# EAGLE library part 2171790001 (library esbd-connectors)
21721790001 Molex Universal Serial Bus (USB) Shielded I/O Receptacle, Type C, Right-Angle, Surface Mount, Top Mount, Single Row, 16 Circuits, Gold (Au) Plating
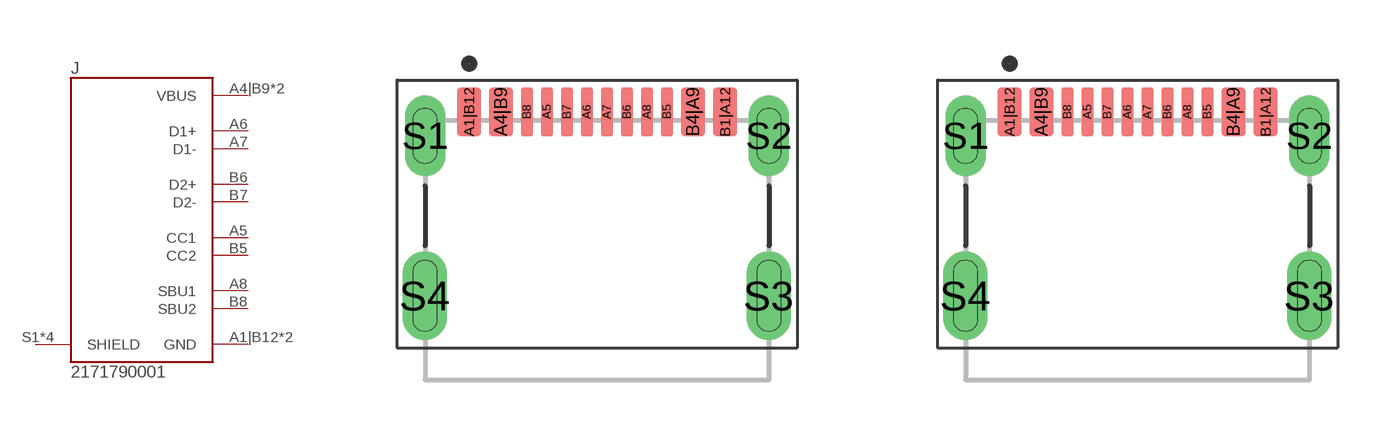
[diagram p1: symbol with the pads of 2171790001-2L; footprints 2171790001-2L, 2171790001-4L]

Designator prefix J

## 2171790001-2L  [2171790001-2L]
A1|B12  GND  pwr
A4|B9  VBUS  pwr
A5  CC1
A6  D1+
A7  D1-
A8  SBU1
B1|A12  GND  pwr
B4|A9  VBUS  pwr
B5  CC2
B6  D2+
B7  D2-
B8  SBU2
S1  SHIELD  pwr
S2  SHIELD  pwr
S3  SHIELD  pwr
S4  SHIELD  pwr

## 2171790001-4L  [2171790001-4L]
Pads as for 2171790001-2L

## 2171790001-6L  [2171790001-6L]
Pads as for 2171790001-2L

## Footprint 2171790001-2L (pad centres in mm)
https://www.molex.com/pdm_docs/sd/2171790001_sd.pdf
smd 0.6 x 1.2: A1|B12 -3.2,3.45; A4|B9 -2.4,3.45; B1|A12 3.2,3.45; B4|A9 2.4,3.45
smd 0.3 x 1.2: A5 -1.25,3.45; A6 -0.25,3.45; A7 0.25,3.45; A8 1.25,3.45; B5 1.75,3.45; B6 0.75,3.45; B7 -0.75,3.45; B8 -1.75,3.45
drill 0.5 long: S1 -4.3,2.85; S2 4.29,2.85
drill 0.6 long: S3 4.29,-1.15; S4 -4.31,-1.15

## Footprint 2171790001-4L (pad centres in mm)
https://www.molex.com/pdm_docs/sd/2171790001_sd.pdf
smd 0.6 x 1.2: A1|B12 -3.2,3.45; A4|B9 -2.4,3.45; B1|A12 3.2,3.45; B4|A9 2.4,3.45
smd 0.3 x 1.2: A5 -1.25,3.45; A6 -0.25,3.45; A7 0.25,3.45; A8 1.25,3.45; B5 1.75,3.45; B6 0.75,3.45; B7 -0.75,3.45; B8 -1.75,3.45
drill 0.5 long: S1 -4.3,2.85; S2 4.29,2.85
drill 0.6 long: S3 4.29,-1.15; S4 -4.31,-1.15

## Footprint 2171790001-6L (pad centres in mm)
https://www.molex.com/pdm_docs/sd/2171790001_sd.pdf
smd 0.6 x 1.2: A1|B12 -3.2,3.45; A4|B9 -2.4,3.45; B1|A12 3.2,3.45; B4|A9 2.4,3.45
smd 0.3 x 1.2: A5 -1.25,3.45; A6 -0.25,3.45; A7 0.25,3.45; A8 1.25,3.45; B5 1.75,3.45; B6 0.75,3.45; B7 -0.75,3.45; B8 -1.75,3.45
drill 0.5 long: S1 -4.3,2.85; S2 4.29,2.85
drill 0.6 long: S3 4.29,-1.15; S4 -4.31,-1.15